# Altium schematic symbol library PS2-6PIN.SchLib: 1 symbol
Pins are listed as number, name and electrical type; pins without a type are passive.

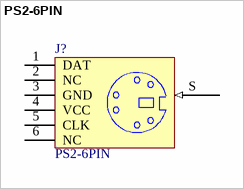
[diagram p0: symbol PS2-6PIN]

## PS2-6PIN
designator J?
pins: 1 DAT, 2 NC, 3 GND, 4 VCC, 5 CLK, 6 NC, S (in)